# Altium footprint library Unclassified Device.PcbLib: 3 footprints
Each footprint in its own frame and in the unit in brackets; x right, y up, seen from the top. Pads: shape width x height; smd on the part's side, far side on the other; paste and mask are expansions set on the pad; w line width, h text height; cw(c..) or ccw(c..) is an arc to the next point about the centre after c.
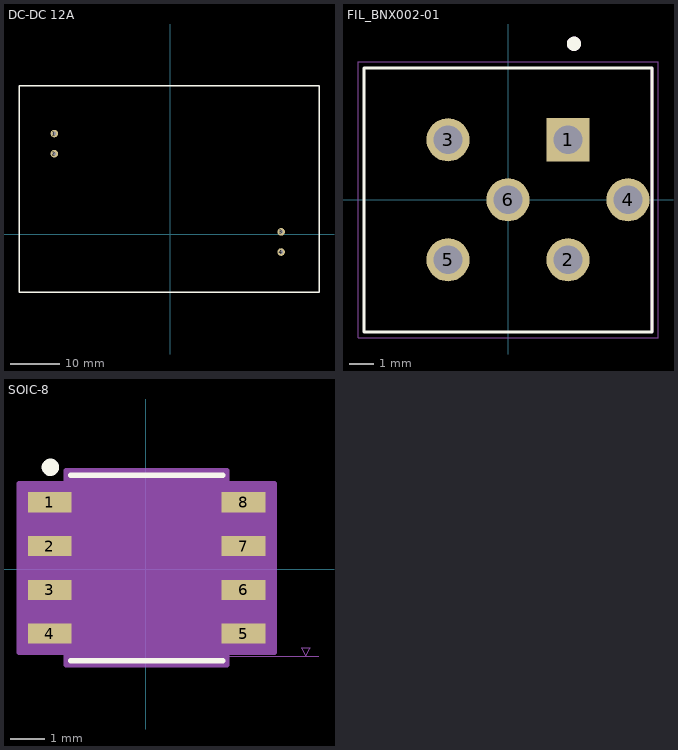
[diagram p0: the footprints below, top view; thin cyan lines are the x and y axes]

## DC-DC 12A [mil]
pads (4):
  round 60 hole 30: 1(-920,800) 2(-920,640) 3(880,20) 4(880,-140)
Top Overlay:
  lines w10: -1200,-460 -1200,1180 1180,1180 1180,-460 -1200,-460
3D body "DC to DC.STEP": height 692.91, standoff -149.61, extent -1180,-604.25 1182.2,1364.25

## FIL_BNX002-01 [mm]
pads (6):
  rect 1.8x1.8 hole 1.2: 1(2.5,2.5)
  round 1.8 hole 1.2: 2(2.5,-2.5) 3(-2.5,2.5) 4(5,0) 5(-2.5,-2.5) 6(0,0)
Top Overlay:
  circle w0.3: c2.75,6.5 r0.15
  lines w0.127: -6,-5.5 -6,5.5 6,5.5 6,-5.5 -6,-5.5
Mechanical 13:
  circle w0.3: c2.75,6.5 r0.15
  lines w0.127: 6,-5.5 6,5.5
Mechanical 15:
  lines w0.05: -6.25,-5.75 6.25,-5.75 6.25,5.75 -6.25,5.75 -6.25,-5.75
3D body "BNX002-01.STEP": height 8.6, standoff -3.9, extent -6,-5.5 6,5.5

## SOIC-8 [mil]
pads (8):
  rect 50x23 smd paste+0 mask+0: 1(-110.07,76.43) 2(-110.07,26.43) 3(-110.07,-23.57) 4(-110.07,-73.57) 5(111.63,-73.57) 6(111.63,-23.57) 7(111.63,26.43) 8(111.63,76.43)
Top Overlay:
  circle w10: c-109.22,116.43 r5
  lines w6: -86.22,-104.57 87.78,-104.57 ; -86.22,107.43 87.78,107.43
Mechanical 7:
  lines w1: 0.78,-99.57 197.78,-99.57 ; 177.78,-89.57 187.78,-89.57 182.78,-99.57 177.78,-89.57
Mechanical 13:
  lines w0: -11.22,102.43 ccw(c0.78,102.43) 12.78,102.43
  lines w1: -121.07,-84.07 -81.22,-84.07 -81.22,-63.07 -121.07,-63.07 -121.07,-84.07 ; -121.07,-34.07 -81.22,-34.07 -81.22,-13.07 -121.07,-13.07 -121.07,-34.07 ; -121.07,15.93 -81.22,15.93 -81.22,36.93 -121.07,36.93 -121.07,15.93 ; -121.07,65.93 -81.22,65.93 -81.22,86.93 -121.07,86.93 -121.07,65.93 ; -81.22,-99.57 -81.22,102.43 82.78,102.43 82.78,-99.57 -81.22,-99.57 ; 82.78,-84.07 122.63,-84.07 122.63,-63.07 82.78,-63.07 82.78,-84.07 ; 82.78,-34.07 122.63,-34.07 122.63,-13.07 82.78,-13.07 82.78,-34.07 ; 82.78,15.93 122.63,15.93 122.63,36.93 82.78,36.93 82.78,15.93 ; 82.78,65.93 122.63,65.93 122.63,86.93 82.78,86.93 82.78,65.93
Mechanical 15:
  region: -91.22,-95.07 -145.07,-95.07 -145.07,97.93 -91.22,97.93 -91.22,112.43 92.78,112.43 92.78,97.93 146.63,97.93 146.63,-95.07 92.78,-95.07 92.78,-109.57 -91.22,-109.57
  lines w6: -145.07,-95.07 -91.22,-95.07 -91.22,-109.57 92.78,-109.57 92.78,-95.07 146.63,-95.07 146.63,97.93 92.78,97.93 92.78,112.43 -91.22,112.43 -91.22,97.93 -145.07,97.93 -145.07,-95.07
3D body "SOIC8_4P16X5P13_ONS.step": height 143.11, standoff 0, extent -121.07,-99.56 122.63,102.41